# Altium schematic symbol library SMD Connectors.SchLib: 14 symbols
Pins are listed as number, name and electrical type; pins without a type are passive.

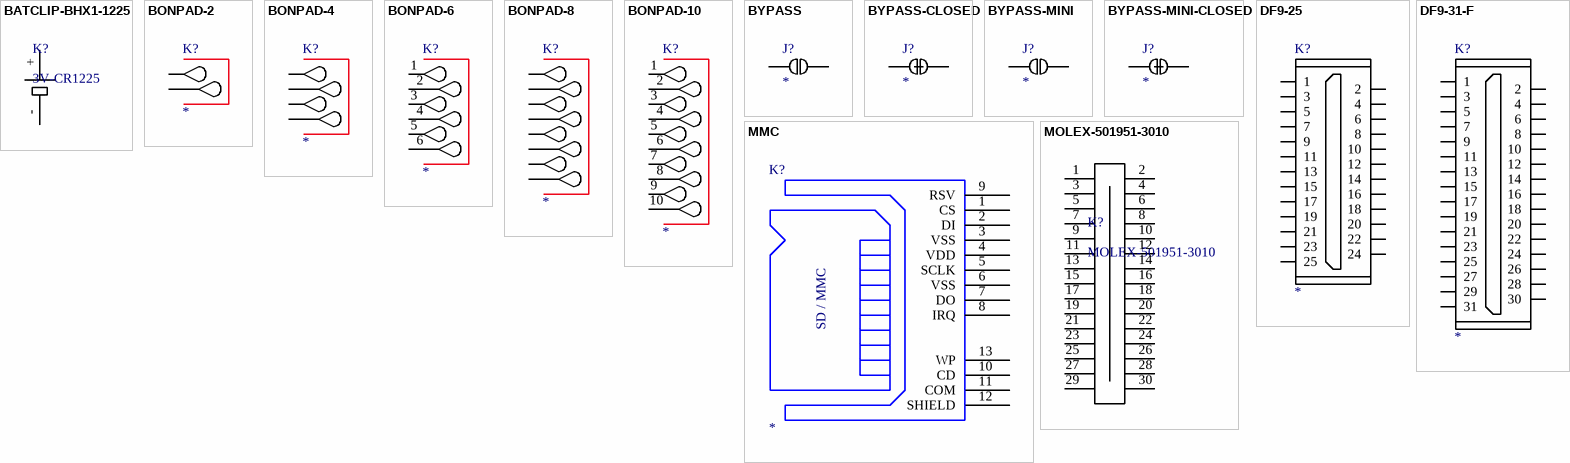
[diagram p0: symbols BATCLIP-BHX1-1225 to MOLEX-501951-3010]

## BATCLIP-BHX1-1225
designator K?, comment 3V-CR1225
Supplier 1: Digi-Key; Supplier Part Number 1: BHX1-1225-PC-ND
footprint BATCLIP-BHX1-1225 (BATTERY CLIP 1225 WITH TRAY)
pins: +, -

## BONPAD-2
designator K?
POGOPIN CONTACTOR
footprint BONPAD-2
pins: 1, 2

## BONPAD-4
designator K?
POGOPIN CONTACTOR
footprint BONPAD-4
pins: 1, 2, 3, 4

## BONPAD-6
designator K?
POGOPIN CONTACTOR
footprint BONPAD-6
pins: 1, 2, 3, 4, 5, 6

## BONPAD-8
designator K?
POGOPIN CONTACTOR
footprint BONPAD-8
pins: 1, 2, 3, 4, 5, 6, 7, 8

## BONPAD-10
designator K?
POGOPIN CONTACTOR
footprint BONPAD-10
pins: 1, 2, 3, 4, 5, 6, 7, 8, 9, 10

## BYPASS
designator J?
SOLDERDOT BYPASS; Manufacturer Part Number 1: Board Feature; Reel: Open; Description: Solderdot; Supplier 1: Solder-it-yourself; Manufacturer 1: Board feature
footprint BYPASS
pins: 1, 2

## BYPASS-CLOSED
designator J?
SOLDERDOT BYPASS; Manufacturer Part Number 1: Board Feature; Reel: Closed; Description: Solderdot; Supplier 1: Solder-it-yourself; Manufacturer 1: Board feature
footprint BYPASS-CLOSED (SOLDERDOT BYPASS CLOSED)
pins: 1, 2

## BYPASS-MINI
designator J?
SOLDERDOT BYPASS; Manufacturer Part Number 1: Board Feature; Reel: Open; Description: Solderdot; Supplier 1: Solder-it-yourself; Manufacturer 1: Board feature
footprint BYPASS-MINI (SOLDERDOT BYPASS)
pins: 1, 2

## BYPASS-MINI-CLOSED
designator J?
SOLDERDOT BYPASS; Manufacturer Part Number 1: Board Feature; Reel: Closed; Description: Solderdot; Supplier 1: Solder-it-yourself; Manufacturer 1: Board feature
footprint BYPASS-MINI-CLOSED (SOLDERDOT BYPASS)
pins: 1, 2

## DF9-25
designator K?
HIROSE DF9 25 PIN
pins: 1, 2, 3, 4, 5, 6, 7, 8, 9, 10, 11, 12, 13, 14, 15, 16, 17, 18, 19, 20, 21, 22, 23, 24, 25

## DF9-31-F
designator K?
HIROSE DF9 31 PIN
footprint DF9-31-F
pins: 1, 2, 3, 4, 5, 6, 7, 8, 9, 10, 11, 12, 13, 14, 15, 16, 17, 18, 19, 20, 21, 22, 23, 24, 25, 26, 27, 28, 29, 30, 31

## MMC
designator K?
MMC CONNECTOR
pins: 1 CS, 2 DI, 3 VSS, 4 VDD, 5 SCLK, 6 VSS, 7 DO, 8 IRQ, 9 RSV, 10 CD, 11 COM, 12 SHIELD, 13 WP
text: SD / MMC

## MOLEX-501951-3010
designator K?
footprint molex-501951-3010 (MOLEX FPC CONNECTOR 30 POSITIONS)
pins: 1, 2, 3, 4, 5, 6, 7, 8, 9, 10, 11, 12, 13, 14, 15, 16, 17, 18, 19, 20, 21, 22, 23, 24, 25, 26, 27, 28, 29, 30